# EAGLE library part MCP4901 (library MyComponents)
8/10/12-Bit Voltage Output Digital-to-Analog Converter with SPI Interface
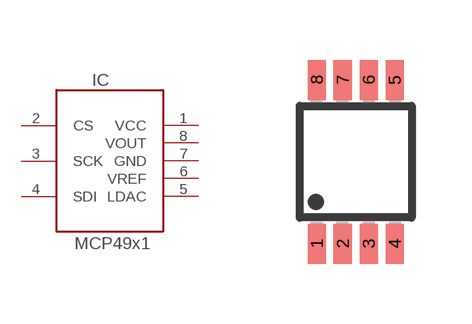
[diagram p2: symbol with the pads of MSOP-8; footprint MSOP-8]

Designator prefix IC

## MCP4901  [MSOP-8]
1  VCC  sup
2  CS
3  SCK
4  SDI
5  LDAC
6  VREF
7  GND  pwr
8  VOUT

## Footprint MSOP-8 (pad centres in mm)
Micro Small Outline Package Grid 0.65mm Source: http://ww1.microchip.com/downloads/en/DeviceDoc/21796H.pdf
smd 0.45 x 1: 1 -0.975,-2.05; 2 -0.325,-2.05; 3 0.325,-2.05; 4 0.975,-2.05; 5 0.975,2.05; 6 0.325,2.05; 7 -0.325,2.05; 8 -0.975,2.05